# EAGLE library part MODULO_ADXL345 (library GEAP)
O Módulo Acelerômetro ADXL345 3 Eixos é módulo acelerômetro de alta resolução (13-bits) de medição de até ± 16 g, com interface I2C e SPI o que o torna compatível com a maioria dos microcontroladores como Arduino, PIC, Raspberry e etc. Pode ser usado para obter dados de inclinação, choques, tremores e etc.
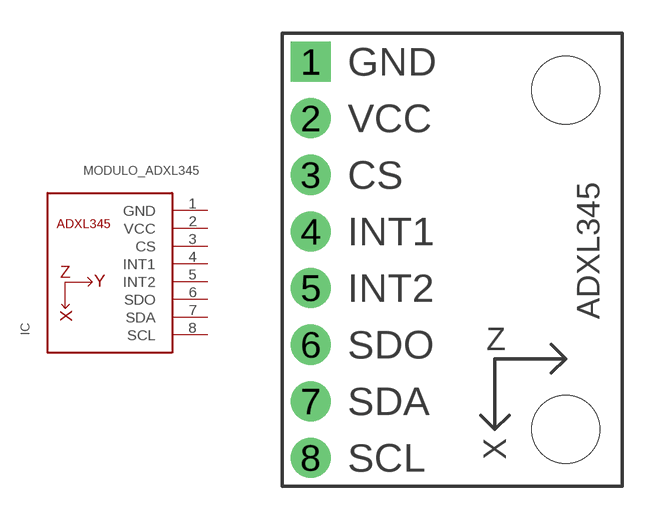
[diagram p1: symbol with the pads of MODULO_ADXL345; footprint MODULO_ADXL345]

Designator prefix IC

## MODULO_ADXL345  [MODULO_ADXL345]
1  GND  pwr
2  VCC  pwr
3  CS  in
4  INT1  out
5  INT2  out
6  SDO
7  SDA
8  SCL  in

## Footprint MODULO_ADXL345 (pad centres in mm)
drill 0.9 pad 1.8 square: 1 1.27,19.05
drill 0.9 pad 1.8: 2 1.27,16.51; 3 1.27,13.97; 4 1.27,11.43; 5 1.27,8.89; 6 1.27,6.35; 7 1.27,3.81; 8 1.27,1.27
hole 3.048 at 12.7,17.78
hole 3.048 at 12.7,2.54